# Altium footprint library CAPS.PcbLib: 166 footprints (part 6 of 11)
Each footprint in its own frame and in the unit in brackets; x right, y up, seen from the top. Pads: shape width x height; smd on the part's side, far side on the other; paste and mask are expansions set on the pad; w line width, h text height; cw(c..) or ccw(c..) is an arc to the next point about the centre after c.
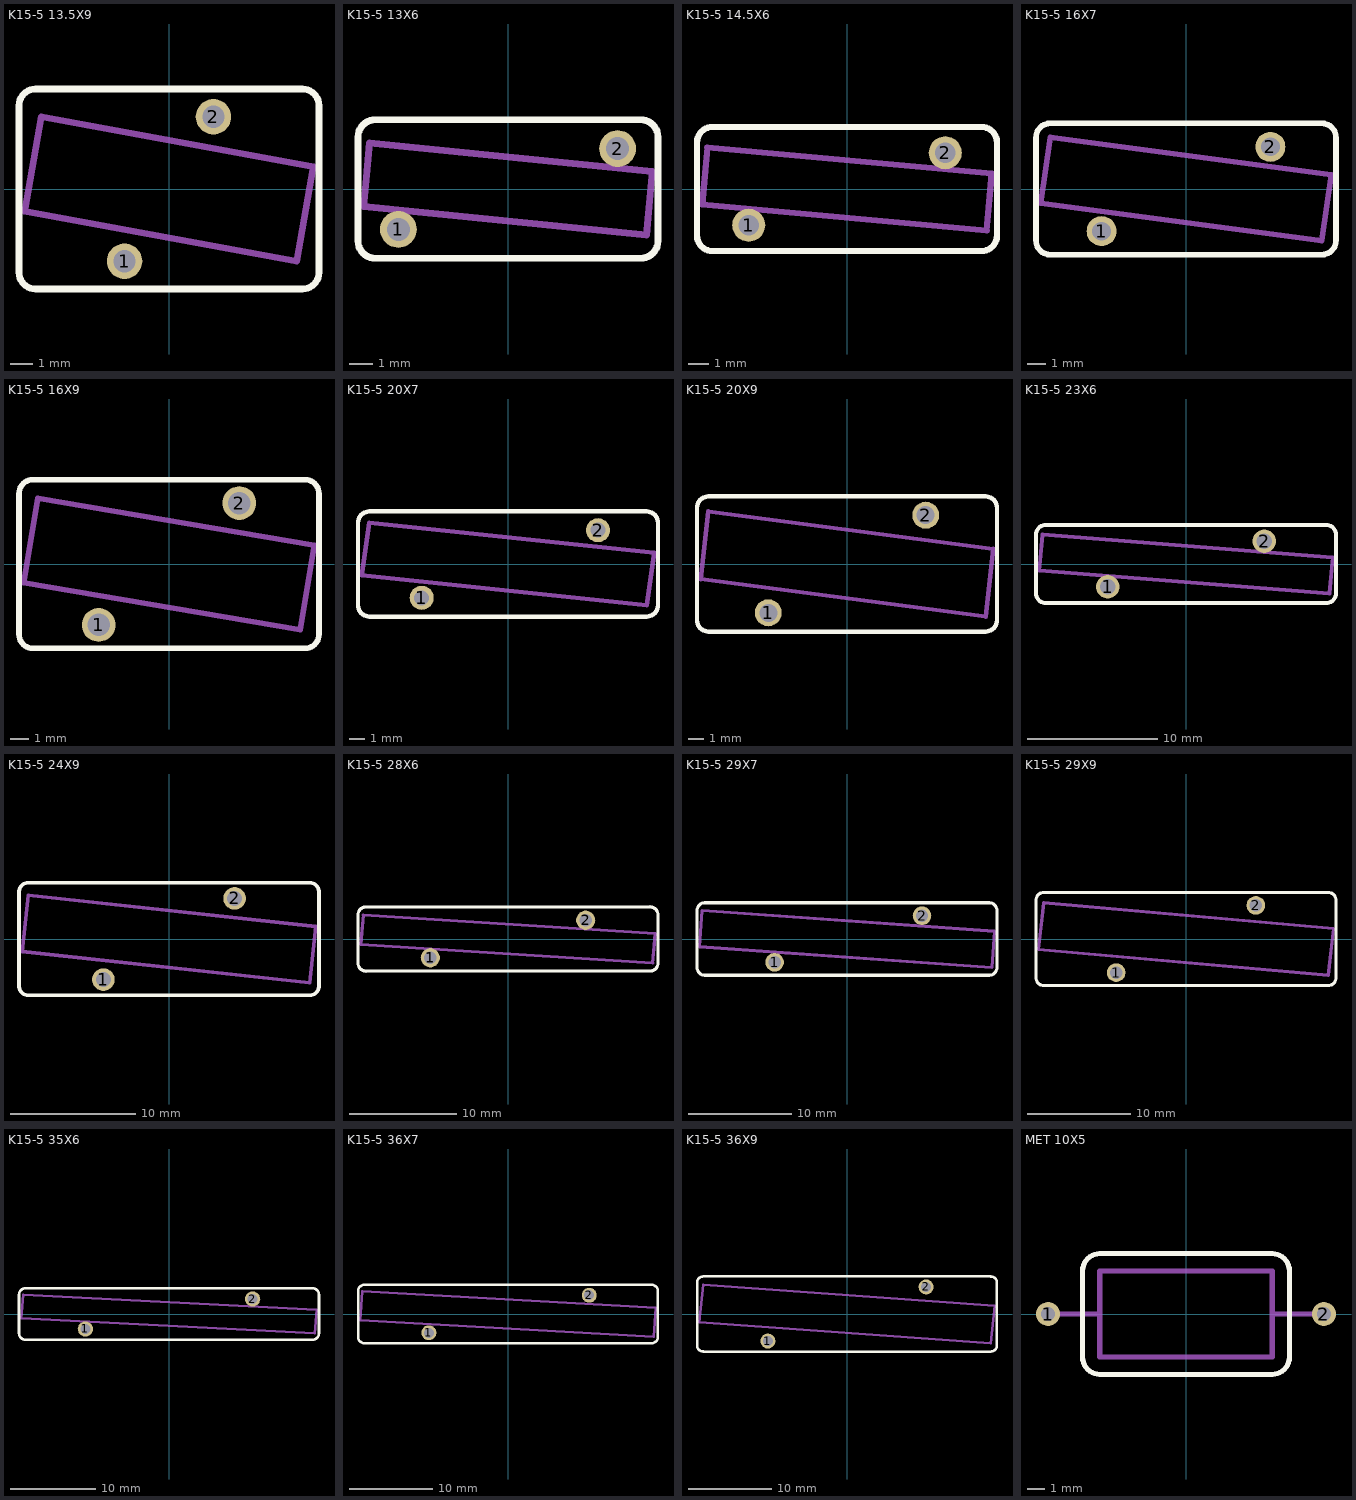
[diagram p5: the footprints below, top view; thin cyan lines are the x and y axes]

## K15-5 13.5X9 [mm]
pads (2):
  round 1.6 hole 1: 1(-2,-3.25) 2(2,3.25)
Top Overlay:
  lines w0.3: -6.75,-3.75 ccw(c-6,-3.75) -6,-4.5 6,-4.5 ccw(c6,-3.75) 6.75,-3.75 6.75,3.75 ccw(c6,3.75) 6,4.5 -6,4.5 ccw(c-6,3.75) -6.75,3.75 -6.75,-3.75
Mechanical 1:
  lines w0.3: -6.5,-1 5.75,-3.25 6.5,1 -5.75,3.25 -6.5,-1

## K15-5 13X6 [mm]
pads (2):
  round 1.6 hole 1: 1(-4.75,-1.75) 2(4.75,1.75)
Top Overlay:
  lines w0.3: -6.5,-2.25 ccw(c-5.75,-2.25) -5.75,-3 5.75,-3 ccw(c5.75,-2.25) 6.5,-2.25 6.5,2.25 ccw(c5.75,2.25) 5.75,3 -5.75,3 ccw(c-5.75,2.25) -6.5,2.25 -6.5,-2.25
Mechanical 1:
  lines w0.3: -6.25,-0.75 6,-2 6.25,0.75 -6,2 -6.25,-0.75

## K15-5 14.5X6 [mm]
pads (2):
  round 1.6 hole 1: 1(-4.75,-1.75) 2(4.75,1.75)
Top Overlay:
  lines w0.3: -7.25,-2.25 ccw(c-6.5,-2.25) -6.5,-3 6.5,-3 ccw(c6.5,-2.25) 7.25,-2.25 7.25,2.25 ccw(c6.5,2.25) 6.5,3 -6.5,3 ccw(c-6.5,2.25) -7.25,2.25 -7.25,-2.25
Mechanical 1:
  lines w0.3: -7,-0.75 6.75,-2 7,0.75 -6.75,2 -7,-0.75

## K15-5 16X7 [mm]
pads (2):
  round 1.6 hole 1: 1(-4.5,-2.25) 2(4.5,2.25)
Top Overlay:
  lines w0.3: -8,-2.75 ccw(c-7.25,-2.75) -7.25,-3.5 7.25,-3.5 ccw(c7.25,-2.75) 8,-2.75 8,2.75 ccw(c7.25,2.75) 7.25,3.5 -7.25,3.5 ccw(c-7.25,2.75) -8,2.75 -8,-2.75
Mechanical 1:
  lines w0.3: -7.75,-0.75 7.25,-2.75 7.75,0.75 -7.25,2.75 -7.75,-0.75

## K15-5 16X9 [mm]
pads (2):
  round 1.8 hole 1.2: 1(-3.75,-3.25) 2(3.75,3.25)
Top Overlay:
  lines w0.3: -8,-3.75 ccw(c-7.25,-3.75) -7.25,-4.5 7.25,-4.5 ccw(c7.25,-3.75) 8,-3.75 8,3.75 ccw(c7.25,3.75) 7.25,4.5 -7.25,4.5 ccw(c-7.25,3.75) -8,3.75 -8,-3.75
Mechanical 1:
  lines w0.3: -7.75,-1 7,-3.5 7.75,1 -7,3.5 -7.75,-1

## K15-5 20X7 [mm]
pads (2):
  round 1.6 hole 1: 1(-5.75,-2.25) 2(6,2.25)
Top Overlay:
  lines w0.3: -10,-2.75 ccw(c-9.25,-2.75) -9.25,-3.5 9.25,-3.5 ccw(c9.25,-2.75) 10,-2.75 10,2.75 ccw(c9.25,2.75) 9.25,3.5 -9.25,3.5 ccw(c-9.25,2.75) -10,2.75 -10,-2.75
Mechanical 1:
  lines w0.3: -9.75,-0.75 -9.25,2.75 9.75,0.75 9.25,-2.75 -9.75,-0.75

## K15-5 20X9 [mm]
pads (2):
  round 1.8 hole 1.2: 1(-5.25,-3.25) 2(5.25,3.25)
Top Overlay:
  lines w0.3: -10,-3.75 ccw(c-9.25,-3.75) -9.25,-4.5 9.25,-4.5 ccw(c9.25,-3.75) 10,-3.75 10,3.75 ccw(c9.25,3.75) 9.25,4.5 -9.25,4.5 ccw(c-9.25,3.75) -10,3.75 -10,-3.75
Mechanical 1:
  lines w0.3: -9.75,-1 9.25,-3.5 9.75,1 -9.25,3.5 -9.75,-1

## K15-5 23X6 [mm]
pads (2):
  round 1.8 hole 1.2: 1(-6,-1.75) 2(6,1.75)
Top Overlay:
  lines w0.3: -11.5,-2.25 ccw(c-10.75,-2.25) -10.75,-3 10.75,-3 ccw(c10.75,-2.25) 11.5,-2.25 11.5,2.25 ccw(c10.75,2.25) 10.75,3 -10.75,3 ccw(c-10.75,2.25) -11.5,2.25 -11.5,-2.25
Mechanical 1:
  lines w0.3: -11.25,-0.5 -11,2.25 11.25,0.5 11,-2.25 -11.25,-0.5

## K15-5 24X9 [mm]
pads (2):
  round 1.8 hole 1.2: 1(-5.25,-3.25) 2(5.25,3.25)
Top Overlay:
  lines w0.3: -12,-3.75 ccw(c-11.25,-3.75) -11.25,-4.5 11.25,-4.5 ccw(c11.25,-3.75) 12,-3.75 12,3.75 ccw(c11.25,3.75) 11.25,4.5 -11.25,4.5 ccw(c-11.25,3.75) -12,3.75 -12,-3.75
Mechanical 1:
  lines w0.3: -11.75,-1 11.25,-3.5 11.75,1 -11.25,3.5 -11.75,-1

## K15-5 28X6 [mm]
pads (2):
  round 1.8 hole 1.2: 1(-7.25,-1.75) 2(7.25,1.75)
Top Overlay:
  lines w0.3: -14,-2.25 ccw(c-13.25,-2.25) -13.25,-3 13.25,-3 ccw(c13.25,-2.25) 14,-2.25 14,2.25 ccw(c13.25,2.25) 13.25,3 -13.25,3 ccw(c-13.25,2.25) -14,2.25 -14,-2.25
Mechanical 1:
  lines w0.3: -13.75,-0.5 13.5,-2.25 13.75,0.5 -13.5,2.25 -13.75,-0.5

## K15-5 29X7 [mm]
pads (2):
  round 1.8 hole 1.2: 1(-7,-2.25) 2(7.25,2.25)
Top Overlay:
  lines w0.3: -14.5,-2.75 ccw(c-13.75,-2.75) -13.75,-3.5 13.75,-3.5 ccw(c13.75,-2.75) 14.5,-2.75 14.5,2.75 ccw(c13.75,2.75) 13.75,3.5 -13.75,3.5 ccw(c-13.75,2.75) -14.5,2.75 -14.5,-2.75
Mechanical 1:
  lines w0.3: -14.25,-0.75 14,-2.75 14.25,0.75 -14,2.75 -14.25,-0.75

## K15-5 29X9 [mm]
pads (2):
  round 1.8 hole 1.2: 1(-6.75,-3.25) 2(6.75,3.25)
Top Overlay:
  lines w0.3: -14.5,-3.75 ccw(c-13.75,-3.75) -13.75,-4.5 13.75,-4.5 ccw(c13.75,-3.75) 14.5,-3.75 14.5,3.75 ccw(c13.75,3.75) 13.75,4.5 -13.75,4.5 ccw(c-13.75,3.75) -14.5,3.75 -14.5,-3.75
Mechanical 1:
  lines w0.3: -14.25,-1 13.75,-3.5 14.25,1 -13.75,3.5 -14.25,-1

## K15-5 35X6 [mm]
pads (2):
  round 1.8 hole 1.2: 1(-9.75,-1.75) 2(9.75,1.75)
Top Overlay:
  lines w0.3: -17.5,-2.25 ccw(c-16.75,-2.25) -16.75,-3 16.75,-3 ccw(c16.75,-2.25) 17.5,-2.25 17.5,2.25 ccw(c16.75,2.25) 16.75,3 -16.75,3 ccw(c-16.75,2.25) -17.5,2.25 -17.5,-2.25
Mechanical 1:
  lines w0.3: -17.25,-0.5 17,-2.25 17.25,0.5 -17,2.25 -17.25,-0.5

## K15-5 36X7 [mm]
pads (2):
  round 1.8 hole 1.2: 1(-9.5,-2.25) 2(9.75,2.25)
Top Overlay:
  lines w0.3: -18,-2.75 ccw(c-17.25,-2.75) -17.25,-3.5 17.25,-3.5 ccw(c17.25,-2.75) 18,-2.75 18,2.75 ccw(c17.25,2.75) 17.25,3.5 -17.25,3.5 ccw(c-17.25,2.75) -18,2.75 -18,-2.75
Mechanical 1:
  lines w0.3: -17.75,-0.75 17.5,-2.75 17.75,0.75 -17.5,2.75 -17.75,-0.75

## K15-5 36X9 [mm]
pads (2):
  round 1.8 hole 1.2: 1(-9.5,-3.25) 2(9.5,3.25)
Top Overlay:
  lines w0.3: -18,-3.75 ccw(c-17.25,-3.75) -17.25,-4.5 17.25,-4.5 ccw(c17.25,-3.75) 18,-3.75 18,3.75 ccw(c17.25,3.75) 17.25,4.5 -17.25,4.5 ccw(c-17.25,3.75) -18,3.75 -18,-3.75
Mechanical 1:
  lines w0.3: -17.75,-1 17.25,-3.5 17.75,1 -17.25,3.5 -17.75,-1

## MET 10X5 [mm]
pads (2):
  round 1.4 hole 0.8: 1(-8,0) 2(8,0)
Top Overlay:
  lines w0.3: -6,-2.5 ccw(c-5,-2.5) -5,-3.5 5,-3.5 ccw(c5,-2.5) 6,-2.5 6,2.5 ccw(c5,2.5) 5,3.5 -5,3.5 ccw(c-5,2.5) -6,2.5 -6,-2.5
Mechanical 1:
  lines w0.3: -8,0 -5,0 ; 5,0 8,0 ; -5,-2.5 5,-2.5 5,2.5 -5,2.5 -5,-2.5